# Altium footprint library SOD-123_L3.1-W1.7-LS3.7-RD.PcbLib: 1 footprints
Each footprint in its own frame and in the unit in brackets; x right, y up, seen from the top. Pads: shape width x height; smd on the part's side, far side on the other; paste and mask are expansions set on the pad; w line width, h text height; cw(c..) or ccw(c..) is an arc to the next point about the centre after c.
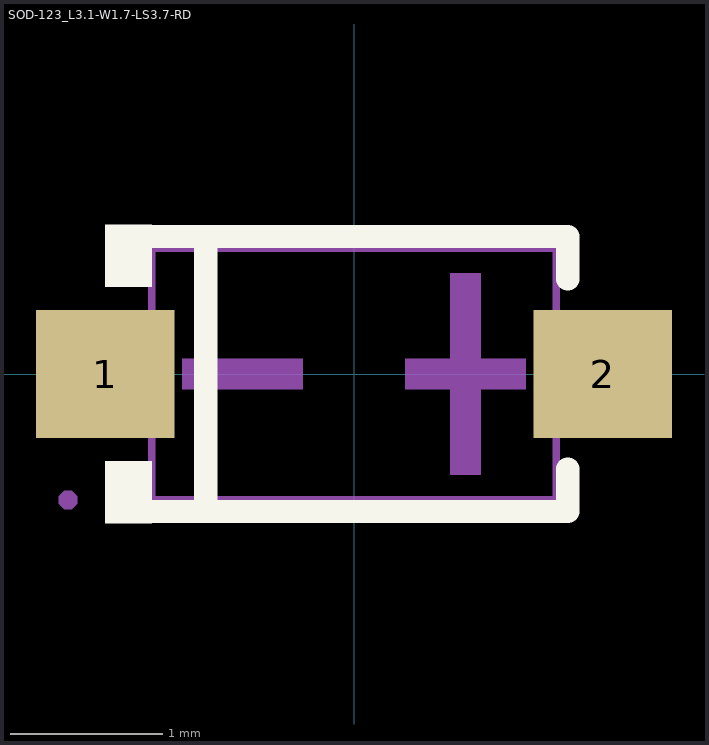
[diagram p0: the footprint, top view; thin cyan lines are the x and y axes]

## SOD-123_L3.1-W1.7-LS3.7-RD [mm]
pads (2):
  rect 0.91x0.84 smd: 1(-1.63,0) 2(1.63,0)
Top Overlay:
  region: -1.325,-0.977 -1.325,-0.572 -1.63,-0.572 -1.63,-0.977
  region: -1.325,0.977 -1.325,0.572 -1.63,0.572 -1.63,0.977
  lines w0.152: -1.401,-0.901 1.401,-0.901 1.401,-0.623 ; -1.401,0.901 1.401,0.901 1.401,0.623 ; -0.972,-0.901 -0.972,0.901
Mechanical 6:
  region: 0.83,0.66 0.83,-0.66 0.632,-0.66 0.632,0.66
  region: 1.127,0.099 1.127,-0.099 0.335,-0.099 0.335,0.099
  region: -1.127,0.099 -1.127,-0.099 -0.335,-0.099 -0.335,0.099
Mechanical 15:
  region: 1.315,-0.3 1.315,0.3 1.535,0.3 1.535,-0.3
  region: 1.875,-0.3 1.875,0.3 1.525,0.3 1.525,-0.3
  region: -1.315,-0.3 -1.315,0.3 -1.535,0.3 -1.535,-0.3
  region: -1.875,-0.3 -1.875,0.3 -1.525,0.3 -1.525,-0.3
  region: -1.815,-0.825 -1.815,-0.85 -1.85,-0.885 -1.9,-0.885 -1.935,-0.85 -1.935,-0.825 -1.935,-0.8 -1.9,-0.765 -1.85,-0.765 -1.815,-0.8 -1.815,-0.825
  lines w0.051: -1.325,-0.825 1.325,-0.825 1.325,0.825 -1.325,0.825 -1.325,-0.825